# Altium footprint library PcbLib1.PcbLib: 15 footprints
Each footprint in its own frame and in the unit in brackets; x right, y up, seen from the top. Pads: shape width x height; smd on the part's side, far side on the other; paste and mask are expansions set on the pad; w line width, h text height; cw(c..) or ccw(c..) is an arc to the next point about the centre after c.
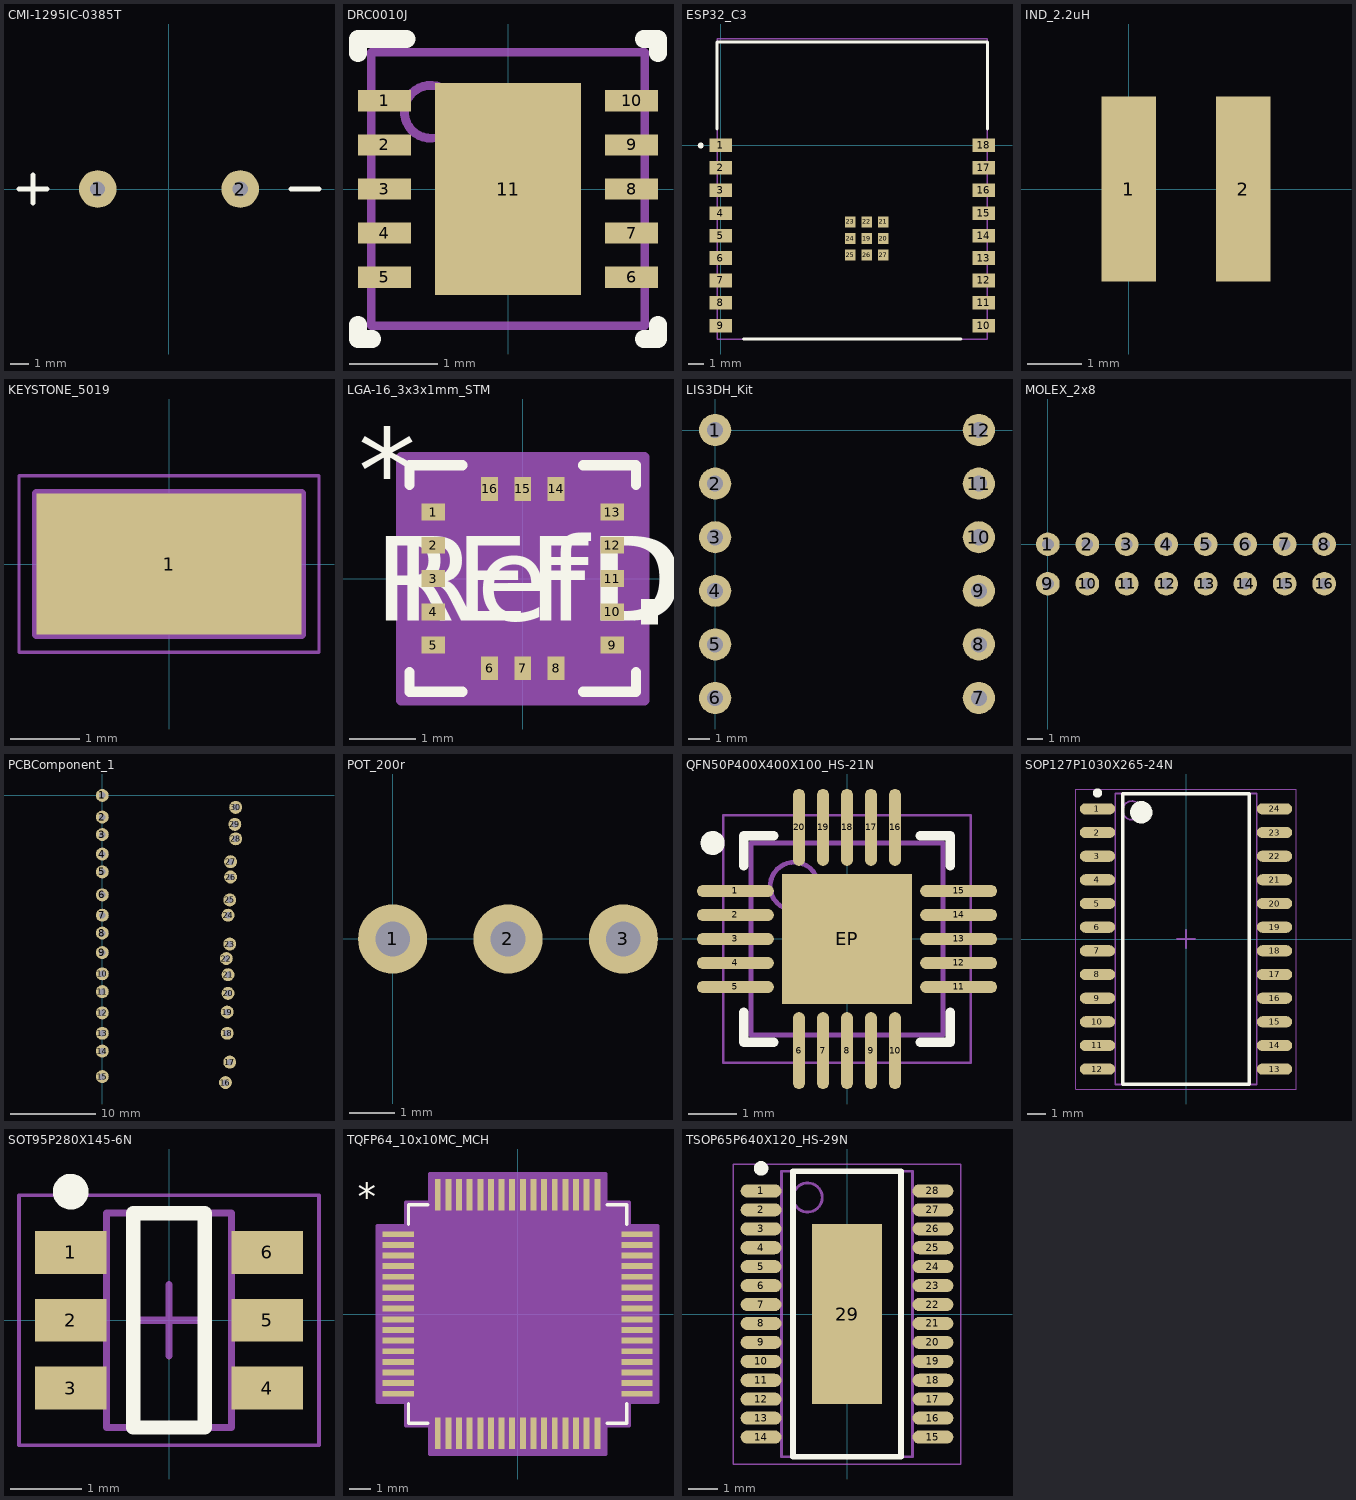
[diagram p0: the footprints below, top view; thin cyan lines are the x and y axes]

## CMI-1295IC-0385T [mm] "12 mm, 3 Vdc, 85 dB, Through Hole, Driving Circuit, Magnetic Audio Indicator Buzzer"
pads (2):
  round 2 hole 0.8: 1(-3.8,0) 2(3.8,0)
Top Overlay:
  lines w0.254: -8,0 -6.5,0 ; -7.25,-0.75 -7.25,0.75 ; 6.5,0 8,0
3D body: height 15, standoff 5.5, extent -6,-6 6,6
3D body: height 5.5, standoff 0, extent -4.1,-0.3 -3.5,0.3
3D body: height 5.5, standoff 0, extent 3.5,-0.3 4.1,0.3

## DRC0010J [mm] "TPS63000"
pads (11):
  rect 0.6x0.24 smd paste+0 mask+0.051: 1(-1.4,1) 2(-1.4,0.5) 3(-1.4,0) 4(-1.4,-0.5) 5(-1.4,-1) 6(1.4,-1) 7(1.4,-0.5) 8(1.4,0) 9(1.4,0.5) 10(1.4,1)
  rect 1.65x2.4 smd paste-1.187 mask+0.051: 11(0,0)
Top Overlay:
  lines w0.2: -1.7,-1.54 -1.7,-1.7 -1.54,-1.7 ; -1.7,1.54 -1.7,1.7 -1.15,1.7 ; 1.54,-1.7 1.7,-1.7 1.7,-1.54 ; 1.54,1.7 1.7,1.7 1.7,1.54
Top Paste:
  region: -0.75,1.16 -0.75,0.1 0.75,0.1 0.75,1.16
  region: -0.75,-0.1 -0.75,-1.16 0.75,-1.16 0.75,-0.1
Mechanical 13:
  circle w0.1: c-0.875,0.875 r0.3
  lines w0.1: -1.55,-1.55 1.55,-1.55 1.55,1.55 -1.55,1.55 -1.55,-1.55
3D body "DRC0010J.stp": height 1, standoff 0, extent -1.5,-1.5 1.5,1.5

## ESP32_C3 [mm]
pads (27):
  rect 1.5x0.9 smd: 1(0,0) 2(0,-1.5) 3(0,-3) 4(0,-4.5) 5(0,-6) 6(0,-7.5) 7(0,-9) 8(0,-10.5) 9(0,-12) 10(17.5,-12) 11(17.5,-10.5) 12(17.5,-9) 13(17.5,-7.5) 14(17.5,-6) 15(17.5,-4.5) 16(17.5,-3) 17(17.5,-1.5) 18(17.5,0)
  rect 0.7x0.7 smd: 19(9.71,-6.2) 20(10.81,-6.2) 21(10.81,-5.1) 22(9.71,-5.1) 23(8.61,-5.1) 24(8.61,-6.2) 25(8.61,-7.3) 26(9.71,-7.3) 27(10.81,-7.3)
Top Overlay:
  lines w0.2: -0.25,1.1 -0.25,6.9 17.75,6.9 ; -1.45,0 ccw(c-1.35,0) -1.25,0 ; -1.45,0 cw(c-1.35,0) -1.25,0 ; -1.45,0 ccw(c-1.35,0) -1.25,0 ; 17.75,6.9 17.75,1.1 17.75,6.9 ; 1.5,-12.9 16,-12.9 1.5,-12.9
Mechanical 15:
  lines w0.1: -0.25,-12.9 17.75,-12.9 17.75,7.1 -0.25,7.1 -0.25,-12.9

## IND_2.2uH [mm]
pads (2):
  rect 1x3.4 smd: 1(0,0) 2(2.1,0)

## KEYSTONE_5019 [mm]
height 2.29
pads (1):
  rect 3.8x2.03 smd: 1(0,0)
Mechanical 13:
  lines w0.127: -1.905,-1.015 -1.905,1.015 1.905,1.015 1.905,-1.015 -1.905,-1.015
Mechanical 15:
  lines w0.05: -2.155,-1.265 -2.155,1.265 2.155,1.265 2.155,-1.265 -2.155,-1.265
3D body "step_temp.STEP": height 2.29, standoff 0.01, extent -1.905,-1.015 1.905,1.015

## LGA-16_3x3x1mm_STM [mil] "LIS3DH"
pads (16):
  rect 14x10 smd paste+0 mask+0: 1(-53,39.37) 2(-53,19.68) 3(-53,0) 4(-53,-19.68) 5(-53,-39.37) 9(53,-39.37) 10(53,-19.68) 11(53,0) 12(53,19.68) 13(53,39.37)
  rect 10x14 smd paste+0 mask+0: 6(-19.68,-53) 7(0,-53) 8(19.68,-53) 14(19.68,53) 15(0,53) 16(-19.68,53)
Top Overlay:
  region: 70,-12.19 80,-12.19 80,-27.18 70,-27.18
  lines w6: -67,-55.44 -67,-67 -35.76,-67 ; -67,55.44 -67,67 -35.76,67 ; 35.76,-67 67,-67 67,-55.44 ; 35.76,67 67,67 67,55.44
  text "REFDES" at -87.5,-25 h50
  text "RefDes" at -75,-25 h50
  text "*" at -97.5,39.21 h50
Mechanical 13:
  lines w1: -62,12 -12,62 ; -62,-62 -62,62 62,62 62,-62 -62,-62
  text "RefDes2" at -87.5,-25 h50
  text "*" at -58.5,39.21 h50
Mechanical 15:
  region: -34.69,-72 -72,-72 -72,-54.37 -72,54.37 -72,72 -34.69,72 34.69,72 72,72 72,54.37 72,-54.37 72,-72 34.69,-72
  lines w6: -72,-72 -34.69,-72 34.69,-72 72,-72 72,-54.37 72,54.37 72,72 34.69,72 -34.69,72 -72,72 -72,54.37 -72,-54.37 -72,-72
3D body "LGA-16_3x3x1mm_STM.step": height 39.09, standoff 0, extent -62.01,-62.01 62.01,62.01

## LIS3DH_Kit [mil]
pads (12):
  round 60 hole 30: 1(0,0) 2(0,-100) 3(0,-200) 4(0,-300) 5(0,-400) 6(0,-500) 7(492.13,-500) 8(492.13,-400) 9(492.13,-300) 10(492.13,-200) 11(492.13,-100) 12(492.13,0)

## MOLEX_2x8 [mil]
pads (16):
  round 60 hole 30: 1(0,0) 2(100,0) 3(200,0) 4(300,0) 5(400,0) 6(500,0) 7(600,0) 8(700,0) 9(0,-100) 10(100,-100) 11(200,-100) 12(300,-100) 13(400,-100) 14(500,-100) 15(600,-100) 16(700,-100)

## PCBComponent_1 [mil]
pads (30):
  round 60 hole 30: 1(0,0) 2(0,-100) 3(0,-181.1) 4(0,-271.65) 5(0,-354.33) 6(0,-460.63) 7(0,-555.12) 8(0,-637.8) 9(0,-728.35) 10(0,-826.77) 11(0,-909.45) 12(0,-1007.87) 13(0,-1102.36) 14(0,-1185.04) 15(0,-1303.15) 16(570.87,-1330.71) 17(590.55,-1236.22) 18(578.74,-1102.36) 19(578.74,-1003.94) 20(582.68,-917.32) 21(582.68,-830.71) 22(574.8,-755.91) 23(590.55,-688.98) 24(582.68,-555.12) 25(590.55,-484.25) 26(594.49,-377.95) 27(594.49,-307.09) 28(618.11,-200.79) 29(614.17,-133.86) 30(618.11,-55.12)

## POT_200r [mil]
pads (3):
  round 60 hole 30: 1(0,0) 2(100,0) 3(200,0)

## QFN50P400X400X100_HS-21N [mm] "MCP73871"
height 1
pads (21):
  oval 1.6x0.25 smd: 1(-2.325,1) 2(-2.325,0.5) 3(-2.325,0) 4(-2.325,-0.5) 5(-2.325,-1) 11(2.325,-1) 12(2.325,-0.5) 13(2.325,0) 14(2.325,0.5) 15(2.325,1)
  oval 0.25x1.6 smd: 6(-1,-2.325) 7(-0.5,-2.325) 8(0,-2.325) 9(0.5,-2.325) 10(1,-2.325) 16(1,2.325) 17(0.5,2.325) 18(0,2.325) 19(-0.5,2.325) 20(-1,2.325)
  rect 2.7x2.7 smd: EP(0,0)
Top Overlay:
  circle w0.25: c-2.8,2 r0.125
  lines w0.2: -2.15,-1.525 -2.15,-2.15 -1.525,-2.15 ; -2.15,1.525 -2.15,2.15 -1.525,2.15 ; 1.525,-2.15 2.15,-2.15 2.15,-1.525 ; 1.525,2.15 2.15,2.15 2.15,1.525
Mechanical 13:
  circle w0.1: c-1.1,1.1 r0.5
  lines w0.1: -2,-2 2,-2 2,2 -2,2 -2,-2
Mechanical 15:
  lines w0.05: -2.575,-2.575 2.575,-2.575 2.575,2.575 -2.575,2.575 -2.575,-2.575
  lines w0.1: -0.5,0 0.5,0 ; 0,-0.5 0,0.5
3D body "QFN50P400X400X100_HS-21N.step": height 1, standoff 0, extent -2.01,-2.01 2.01,2.01

## SOP127P1030X265-24N [mm] "74HC154"
height 2.65
pads (24):
  oval 1.9x0.6 smd: 1(-4.75,6.985) 2(-4.75,5.715) 3(-4.75,4.445) 4(-4.75,3.175) 5(-4.75,1.905) 6(-4.75,0.635) 7(-4.75,-0.635) 8(-4.75,-1.905) 9(-4.75,-3.175) 10(-4.75,-4.445) 11(-4.75,-5.715) 12(-4.75,-6.985) 13(4.75,-6.985) 14(4.75,-5.715) 15(4.75,-4.445) 16(4.75,-3.175) 17(4.75,-1.905) 18(4.75,-0.635) 19(4.75,0.635) 20(4.75,1.905) 21(4.75,3.175) 22(4.75,4.445) 23(4.75,5.715) 24(4.75,6.985)
Top Overlay:
  circle w0.6: c-2.4,6.8 r0.3
  circle w0.25: c-4.75,7.835 r0.125
  lines w0.2: -3.4,-7.8 3.4,-7.8 3.4,7.8 -3.4,7.8 -3.4,-7.8
Mechanical 13:
  circle w0.1: c-2.9,6.9 r0.5
  lines w0.1: -3.8,-7.8 3.8,-7.8 3.8,7.8 -3.8,7.8 -3.8,-7.8
Mechanical 15:
  lines w0.05: -5.925,-8.05 5.925,-8.05 5.925,8.05 -5.925,8.05 -5.925,-8.05
  lines w0.1: -0.5,0 0.5,0 ; 0,-0.5 0,0.5
3D body "SOP127P1030X265-24N.step": height 2.65, standoff 0, extent -5.15,-7.8 5.15,7.8

## SOT95P280X145-6N [mm] "SOT23, 6-Leads, Body 2.90x2.80mm, Pitch 0.95mm, IPC Medium Density"
height 1.45
pads (6):
  rect 1x0.6 smd: 1(-1.375,0.95) 2(-1.375,0) 3(-1.375,-0.95) 4(1.375,-0.95) 5(1.375,0) 6(1.375,0.95)
Top Overlay:
  circle w0.25: c-1.375,1.8 r0.125
  lines w0.2: -0.5,-1.5 0.5,-1.5 0.5,1.5 -0.5,1.5 -0.5,-1.5
Mechanical 13:
  lines w0.1: -0.875,-1.5 -0.875,1.5 0.875,1.5 0.875,-1.5 -0.875,-1.5
Mechanical 15:
  lines w0.05: -2.1,-1.75 -2.1,1.75 2.1,1.75 2.1,-1.75 -2.1,-1.75
  lines w0.1: -0.5,0 0.5,0 ; 0,-0.5 0,0.5
3D body "SOT95P280X145-6N.step": height 1.45, standoff 0, extent -1.5,-1.5 1.5,1.5

## TQFP64_10x10MC_MCH [mil]
pads (64):
  rect 58x11 smd paste+0 mask+0: 1(-221,147.64) 2(-221,127.95) 3(-221,108.27) 4(-221,88.58) 5(-221,68.9) 6(-221,49.21) 7(-221,29.53) 8(-221,9.84) 9(-221,-9.84) 10(-221,-29.53) 11(-221,-49.21) 12(-221,-68.9) 13(-221,-88.58) 14(-221,-108.27) 15(-221,-127.95) 16(-221,-147.64) 33(221,-147.64) 34(221,-127.95) 35(221,-108.27) 36(221,-88.58) 37(221,-68.9) 38(221,-49.21) 39(221,-29.53) 40(221,-9.84) 41(221,9.84) 42(221,29.53) 43(221,49.21) 44(221,68.9) 45(221,88.58) 46(221,108.27) 47(221,127.95) 48(221,147.64)
  rect 11x58 smd paste+0 mask+0: 17(-147.64,-221) 18(-127.95,-221) 19(-108.27,-221) 20(-88.58,-221) 21(-68.9,-221) 22(-49.21,-221) 23(-29.53,-221) 24(-9.84,-221) 25(9.84,-221) 26(29.53,-221) 27(49.21,-221) 28(68.9,-221) 29(88.58,-221) 30(108.27,-221) 31(127.95,-221) 32(147.64,-221) 49(147.64,221) 50(127.95,221) 51(108.27,221) 52(88.58,221) 53(68.9,221) 54(49.21,221) 55(29.53,221) 56(9.84,221) 57(-9.84,221) 58(-29.53,221) 59(-49.21,221) 60(-68.9,221) 61(-88.58,221) 62(-108.27,221) 63(-127.95,221) 64(-147.64,221)
Top Overlay:
  lines w6: -202,-166.24 -202,-202 -166.24,-202 ; -202,166.24 -202,202 -166.24,202 ; 166.24,-202 202,-202 202,-166.24 ; 166.24,202 202,202 202,166.24
  text "*" at -295.28,192.91 h50
Mechanical 13:
  drawing of 261 lines, arcs and shapes, not listed
  text "*" at -194.5,132.48 h50
Mechanical 15:
  region: -163.14,-207 -207,-207 -207,-163.14 -260,-163.14 -260,163.14 -207,163.14 -207,207 -163.14,207 -163.14,260 163.14,260 163.14,207 207,207 207,163.14 260,163.14 260,-163.14 207,-163.14 207,-207 163.14,-207 163.14,-260 -163.14,-260
  lines w6: -260,-163.14 -260,163.14 -207,163.14 -207,207 -163.14,207 -163.14,260 163.14,260 163.14,207 207,207 207,163.14 260,163.14 260,-163.14 207,-163.14 207,-207 163.14,-207 163.14,-260 -163.14,-260 -163.14,-207 -207,-207 -207,-163.14 -260,-163.14
3D body "TQFP64_10x10MC_MCH.step": height 47.09, standoff 0, extent -235.98,-235.98 235.98,235.98

## TSOP65P640X120_HS-29N [mm] "TLC5940"
height 1.2
pads (29):
  oval 1.4x0.45 smd: 1(-2.95,4.225) 2(-2.95,3.575) 3(-2.95,2.925) 4(-2.95,2.275) 5(-2.95,1.625) 6(-2.95,0.975) 7(-2.95,0.325) 8(-2.95,-0.325) 9(-2.95,-0.975) 10(-2.95,-1.625) 11(-2.95,-2.275) 12(-2.95,-2.925) 13(-2.95,-3.575) 14(-2.95,-4.225) 15(2.95,-4.225) 16(2.95,-3.575) 17(2.95,-2.925) 18(2.95,-2.275) 19(2.95,-1.625) 20(2.95,-0.975) 21(2.95,-0.325) 22(2.95,0.325) 23(2.95,0.975) 24(2.95,1.625) 25(2.95,2.275) 26(2.95,2.925) 27(2.95,3.575) 28(2.95,4.225)
  rect 2.4x6.17 smd: 29(0,0)
Top Overlay:
  circle w0.25: c-2.95,5 r0.125
  lines w0.2: -1.85,-4.9 1.85,-4.9 1.85,4.9 -1.85,4.9 -1.85,-4.9
Mechanical 13:
  circle w0.1: c-1.35,4 r0.5
  lines w0.1: -2.25,-4.9 2.25,-4.9 2.25,4.9 -2.25,4.9 -2.25,-4.9
Mechanical 15:
  lines w0.05: -3.9,-5.15 3.9,-5.15 3.9,5.15 -3.9,5.15 -3.9,-5.15
  lines w0.1: -0.5,0 0.5,0 ; 0,-0.5 0,0.5
3D body "TSOP65P640X120_HS-29N.step": height 1.2, standoff 0, extent -3.2,-4.9 3.2,4.9